# Altium footprint library Hello.PcbLib: 234 footprints (part 6 of 15)
Each footprint in its own frame and in the unit in brackets; x right, y up, seen from the top. Pads: shape width x height; smd on the part's side, far side on the other; paste and mask are expansions set on the pad; w line width, h text height; cw(c..) or ccw(c..) is an arc to the next point about the centre after c.
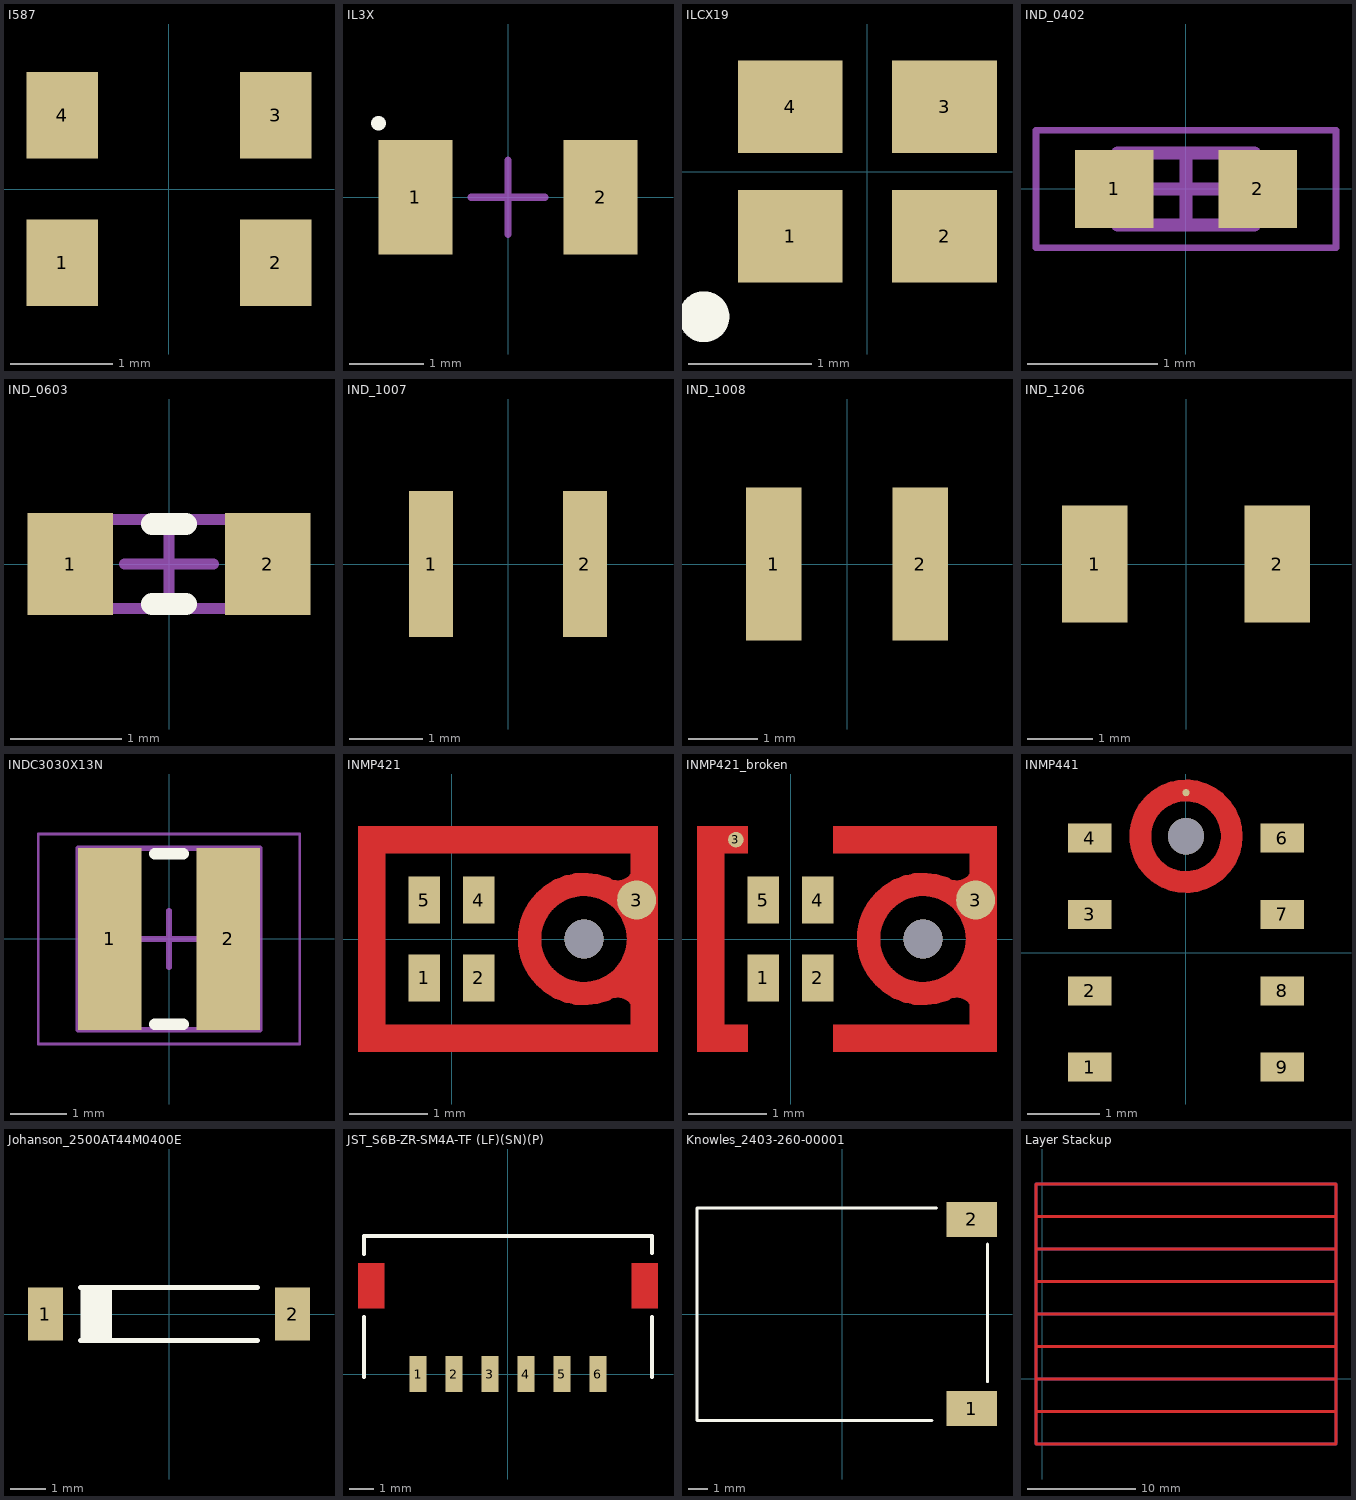
[diagram p5: the footprints below, top view; thin cyan lines are the x and y axes]

## I587 [mm] "ILSI I587 TCXO 2.8 x 1.4 x 1.1mm 4pin"
height 1.1
pads (4):
  rect 0.7x0.85 smd: 1(-1.05,-0.725) 2(1.05,-0.725) 3(1.05,0.725) 4(-1.05,0.725)
3D body: height 1.1, standoff 0, extent -1.25,-1 1.25,1

## IL3X [mm] "ILSI IL3X Crystal Oscillator 3.2 x 1.5 x 0.9mm"
height 0.9
pads (2):
  rect 1x1.55 smd: 1(-1.25,0) 2(1.25,0)
Top Overlay:
  lines w0.2: -1.75,1 -1.75,1
Mechanical 15:
  lines w0.1: -0.5,0 0.5,0 ; 0,-0.5 0,0.5
3D body: height 0.9, standoff 0, extent -1.75,-0.775 1.75,0.775

## ILCX19 [mm] "ILSI ILCX19 Crystal Oscillator 2.0 x 1.6 x 0.45mm"
height 0.45
pads (4):
  rect 0.85x0.75 smd: 1(-0.625,-0.525) 2(0.625,-0.525) 3(0.625,0.525) 4(-0.625,0.525)
Top Overlay:
  circle w0.3: c-1.325,-1.175 r0.056
3D body: height 0.45, standoff 0, extent -1,-0.8 1,0.8

## IND_0402 [mm] "Chip Inductor, 2-Leads, Body 1.00x0.50mm, IPC Medium Density"
height 0.55
pads (2):
  rect 0.6x0.6 smd: 1(-0.55,0) 2(0.55,0)
Mechanical 13:
  lines w0.1: -0.525,-0.275 -0.525,0.275 0.525,0.275 0.525,-0.275 -0.525,-0.275
Mechanical 15:
  lines w0.05: -1.15,-0.45 -1.15,0.45 1.15,0.45 1.15,-0.45 -1.15,-0.45
  lines w0.1: -0.275,0 0.275,0 ; 0,-0.275 0,0.275
3D body: height 0.55, standoff 0, extent -0.325,-0.275 0.325,0.275
3D body: height 0.55, standoff 0, extent -0.525,-0.275 -0.325,0.275
3D body: height 0.55, standoff 0, extent 0.325,-0.275 0.525,0.275

## IND_0603 [mm] "Chip Inductor, 2-Leads, Body 1.60x0.80mm, IPC Medium Density"
height 0.8
pads (2):
  rect 0.77x0.92 smd: 1(-0.89,0) 2(0.89,0)
Top Overlay:
  lines w0.2: -0.15,-0.36 0.15,-0.36 ; -0.15,0.36 0.15,0.36
Mechanical 13:
  lines w0.1: -0.8,-0.4 -0.8,0.4 0.8,0.4 0.8,-0.4 -0.8,-0.4
Mechanical 15:
  lines w0.1: -0.4,0 0.4,0 ; 0,-0.4 0,0.4
3D body: height 0.8, standoff 0, extent -0.5,-0.4 0.5,0.4
3D body: height 0.8, standoff 0, extent -0.8,-0.4 -0.5,0.4
3D body: height 0.8, standoff 0, extent 0.5,-0.4 0.8,0.4

## IND_1007 [mm] "Inductor footprint 1007"
height 1.8
pads (2):
  rect 0.6x2 smd: 1(-1.05,0) 2(1.05,0)
3D body: height 1.8, standoff 0, extent -1.25,-0.9 1.25,0.9

## IND_1008 [mm] "Inductor footprint 1008"
height 0.9
pads (2):
  rect 0.8x2.2 smd: 1(-1.05,0) 2(1.05,0)
3D body: height 1.8, standoff 0, extent -1.25,-0.9 1.25,0.9

## IND_1206 [mm] "Chip Inductor, 2-Leads, Body 1206 / 3.20x1.60mm, IPC High Density"
height 0.9
pads (2):
  rect 1x1.8 smd: 1(-1.4,0) 2(1.4,0)
3D body: height 1.6, standoff 0, extent -1.625,-0.8 1.65,0.8

## INDC3030X13N [mm] "Chip Inductor, 2-Leads, Body 3.00x3.00mm, IPC Medium Density"
height 1.3
pads (2):
  rect 1.12x3.2 smd: 1(-1.04,0) 2(1.04,0)
Top Overlay:
  lines w0.2: -0.25,-1.5 0.25,-1.5 ; -0.25,1.5 0.25,1.5
Mechanical 13:
  lines w0.1: -1.6,-1.6 1.6,-1.6 1.6,1.6 -1.6,1.6 -1.6,-1.6
Mechanical 15:
  lines w0.05: -2.3,-1.85 2.3,-1.85 2.3,1.85 -2.3,1.85 -2.3,-1.85
  lines w0.1: -0.5,0 0.5,0 ; 0,-0.5 0,0.5
3D body: height 1.3, standoff 0, extent 0.83,-1.6 1.6,1.6
3D body: height 1.3, standoff 0, extent -1.6,-1.6 -0.83,1.6
3D body: height 1.3, standoff 0, extent -0.83,-1.6 0.83,1.6

## INMP421 [mm] "InvenSense digital PDM microphone"
height 1
pads (5):
  rect 0.4x0.6 smd paste-0.05: 1(-0.35,-0.5) 2(0.35,-0.5) 4(0.35,0.5) 5(-0.35,0.5)
  round 0.5 smd paste-1 mask-1: 3(2.375,0.5)
via 1.7,0 diameter 0.5 hole 0.5
Top Layer:
  circle w0.3: c1.7,0 r0.7
  region: 2.3,-1.1 2.65,-1.1 2.65,1.1 2.3,1.1
  region: -0.85,1.45 -0.85,1.1 2.65,1.1 2.65,1.45
  region: -1.2,-1.45 -0.85,-1.45 -0.85,1.45 -1.2,1.45
  region: -0.85,-1.1 -0.85,-1.45 2.65,-1.45 2.65,-1.1
  lines w0.2: 2.096,-0.655 cw(c2.133,-0.952) 2.375,-0.775 ; 2.096,0.655 ccw(c2.133,0.952) 2.375,0.775
Top Paste:
  region: -0.9,0.875 -1.15,0.875 -1.15,-0.875 -0.9,-0.875
  region: -0.85,-1.15 -0.85,-1.4 -0.025,-1.4 -0.025,-1.15
  region: 0.425,1.4 0.425,1.15 1.55,1.15 1.55,1.4
  region: 0.425,-1.15 0.425,-1.4 1.55,-1.4 1.55,-1.15
  region: 0.925,1.4 0.925,1.15 1.75,1.15 1.75,1.4
  region: -0.85,1.4 -0.85,1.15 -0.025,1.15 -0.025,1.4
  region: 2.2,1.4 2.2,1.15 2.6,1.15 2.6,1.4
  region: 2.2,-1.15 2.2,-1.4 2.6,-1.4 2.6,-1.15
  region: 2.2,0.625 2.325,0 2.2,-0.625 2.6,-0.625 2.6,0.625
Top Solder:
  circle w0.6: c1.7,0 r0.2
3D body: height 1, standoff 0, extent -1.275,-1.5 2.725,1.5

## INMP421_broken [mm] "InvenSense digital PDM microphone"
height 1
pads (6):
  rect 0.4x0.6 smd paste-0.05: 1(-0.35,-0.5) 2(0.35,-0.5) 4(0.35,0.5) 5(-0.35,0.5)
  round 0.2 smd paste-1 mask-1: 3(-0.7,1.275)
  round 0.5 smd paste-1 mask-1: 3(2.375,0.5)
via 1.7,0 diameter 0.5 hole 0.5
Top Layer:
  circle w0.3: c1.7,0 r0.7
  region: -1.2,-1.45 -0.85,-1.45 -0.85,1.45 -1.2,1.45
  region: 0.55,1.45 0.55,1.1 2.65,1.1 2.65,1.45
  region: 2.3,-1.1 2.65,-1.1 2.65,1.1 2.3,1.1
  region: -0.85,1.45 -0.85,1.1 -0.55,1.1 -0.55,1.45
  region: -0.85,-1.45 -0.85,-1.1 -0.55,-1.1 -0.55,-1.45
  region: 0.55,-1.45 0.55,-1.1 2.65,-1.1 2.65,-1.45
  lines w0.2: 2.096,-0.655 cw(c2.133,-0.952) 2.375,-0.775 ; 2.096,0.655 ccw(c2.133,0.952) 2.375,0.775
Top Paste:
  region: 2.2,0.625 2.325,0 2.2,-0.625 2.6,-0.625 2.6,0.625
  region: 2.2,-1.15 2.2,-1.4 2.6,-1.4 2.6,-1.15
  region: 2.2,1.4 2.2,1.15 2.6,1.15 2.6,1.4
  region: 0.675,1.4 0.675,1.15 1.75,1.15 1.75,1.4
  region: -0.9,1.375 -1.15,1.375 -1.15,-1.375 -0.9,-1.375
  region: 0.675,-1.4 0.675,-1.15 1.75,-1.15 1.75,-1.4
Top Solder:
  circle w0.6: c1.7,0 r0.2
3D body: height 1, standoff 0, extent -1.275,-1.5 2.725,1.5

## INMP441 [mm] "InvenSense digital microphone"
height 1
pads (9):
  rect 0.6x0.4 smd paste-0.05: 1(-1.325,-1.575) 2(-1.325,-0.525) 3(-1.325,0.525) 4(-1.325,1.575) 6(1.325,1.575) 7(1.325,0.525) 8(1.325,-0.525) 9(1.325,-1.575)
  round 0.1 smd paste+0 mask+0: 5(0,2.2)
via 0,1.6 diameter 0.5 hole 0.5
Top Layer:
  circle w0.3: c0,1.6 r0.63
Top Solder:
  circle w0.6: c0,1.6 r0.2
3D body: height 1, standoff 0, extent -1.9,-2.075 1.9,2.675

## Johanson_2500AT44M0400E [mm] "Chip antenna"
height 1
pads (2):
  rect 1x1.5 smd: 1(-3.5,0) 2(3.5,0)
Top Overlay:
  region: -2.5,0.75 -1.625,0.75 -1.625,-0.75 -2.5,-0.75
  lines w0.15: -2.5,-0.75 2.5,-0.75 ; -2.5,0.75 2.5,0.75
3D body: height 1.2, standoff 0, extent -4,-0.5 4,0.5

## JST_S6B-ZR-SM4A-TF (LF)(SN)(P) [mm] "JST connector, 6-pin, 1.5mm pitch"
height 5.6
pads (6):
  rect 0.7x1.5 smd: 1(-3.75,0) 2(-2.25,0) 3(-0.75,0) 4(0.75,0) 5(2.25,0) 6(3.75,0)
Top Layer:
  region: 6.25,4.625 5.15,4.625 5.15,2.725 6.25,2.725
  rectangle: -6.25,2.725 -5.15,4.625
Top Overlay:
  lines w0.15: -6,-0.125 -6,2.375 ; -6,5 -6,5.75 6,5.75 6,5.025 ; 6,-0.125 6,2.375
3D body: height 3.7, standoff 0, extent -6,-0.75 6,5.75

## Knowles_2403-260-00001 [mm] "Knowles SMD speaker"
height 3.5
pads (2):
  rect 2.6x1.8 smd paste-3: 1(6.7,-4.89) 2(6.7,4.89)
Top Overlay:
  lines w0.15: 4.65,-5.5 -7.5,-5.5 -7.5,5.475 4.875,5.475 ; 7.5,-3.5 7.5,3.625
3D body: height 3.5, standoff 0, extent -7.5,-5.5 7.5,5.5

## Layer Stackup [mm] "PCB Layer stackup identifier"
Top Layer:
  lines w0.254: -0.6,-3 27.1,-3 ; -0.6,0 27.1,0 ; -0.6,3 27.1,3 ; -0.6,6 27.1,6 ; -0.6,12 27.1,12 ; -0.6,15 27.1,15 ; 27.1,-6 -0.6,-6 -0.6,18 27.1,18 27.1,-5.85 ; -0.6,9 27.1,9 ; -0.6,9 27.1,9 ; -0.6,9 27.1,9 ; -0.6,9 27.1,9 ; -0.6,9 27.1,9 ; -0.6,9 27.1,9 ; -0.6,9 27.1,9 ; -0.6,9 27.1,9
  text "Top Copper" at 0,15.775 h1.52
Mid-Layer 1:
  lines w0.254: -0.6,-6 27.1,-6 ; -0.6,-5.85 -0.6,18 27.1,18 27.1,-5.85 ; -0.6,-3 27.1,-3 ; -0.6,0 27.1,0 ; -0.6,3 27.1,3 ; -0.6,6 27.1,6 ; -0.6,12 27.1,12 ; -0.6,15 27.1,15 ; -0.6,9 27.1,9 ; -0.6,9 27.1,9 ; -0.6,9 27.1,9 ; -0.6,9 27.1,9 ; -0.6,9 27.1,9 ; -0.6,9 27.1,9 ; -0.6,9 27.1,9 ; -0.6,9 27.1,9
  text "Mid Copper 1" at 0,6.8 h1.52
Mid-Layer 2:
  lines w0.254: -0.6,-3 27.1,-3 ; -0.6,0 27.1,0 ; -0.6,3 27.1,3 ; -0.6,6 27.1,6 ; -0.6,9 27.1,9 ; -0.6,15 27.1,15 ; -0.6,12 27.1,12 ; -0.6,12 27.1,12 ; -0.6,12 27.1,12 ; -0.6,12 27.1,12 ; -0.6,12 27.1,12 ; -0.6,12 27.1,12 ; -0.6,12 27.1,12 ; -0.6,12 27.1,12 ; -0.6,-6 -0.6,18 27.1,18 27.1,-6 -0.6,-6
  text "Mid Copper 2" at 0,3.775 h1.52
Bottom Layer:
  lines w0.254: -0.6,-3 27.1,-3 ; -0.6,0 27.1,0 ; -0.6,3 27.1,3 ; -0.6,6 27.1,6 ; -0.6,9 27.1,9 ; -0.6,12 27.1,12 ; -0.6,15 27.1,15 ; -0.6,-6 27.1,-6 27.1,18 -0.6,18 -0.6,-6
  text "Bottom Copper" at 0,0.775 h1.52
Top Paste:
  lines w0.254: -0.6,-3 27.1,-3 ; -0.6,0 27.1,0 ; -0.6,3 27.1,3 ; -0.6,6 27.1,6 ; -0.6,9 27.1,9 ; -0.6,12 27.1,12 ; -0.6,15 27.1,15 ; -0.6,-6 27.1,-6 27.1,18 -0.6,18 -0.6,-6
  text "Paste Mask Top" at 0,9.75 h1.52
Bottom Paste:
  lines w0.254: -0.6,-3 27.1,-3 ; -0.6,0 27.1,0 ; -0.6,3 27.1,3 ; -0.6,6 27.1,6 ; -0.6,9 27.1,9 ; -0.6,12 27.1,12 ; -0.6,15 27.1,15 ; -0.6,-6 27.1,-6 27.1,18 -0.6,18 -0.6,-6
  text "Paste Mask Bottom" at 0,-5.275 h1.52
Top Solder:
  lines w0.254: -0.6,-3 27.1,-3 ; -0.6,0 27.1,0 ; -0.6,3 27.1,3 ; -0.6,6 27.1,6 ; -0.6,9 27.1,9 ; -0.6,12 27.1,12 ; -0.6,15 27.1,15 ; -0.6,-6 27.1,-6 27.1,18 -0.6,18 -0.6,-6
  text "Solder Mask Top" at 0,12.775 h1.52
Bottom Solder:
  lines w0.254: -0.6,-3 27.1,-3 ; -0.6,0 27.1,0 ; -0.6,3 27.1,3 ; -0.6,6 27.1,6 ; -0.6,9 27.1,9 ; -0.6,12 27.1,12 ; -0.6,15 27.1,15 ; -0.6,-6 27.1,-6 27.1,18 -0.6,18 -0.6,-6
  text "Solder Mask Bottom" at 0,-2.25 h1.52